# Altium schematic symbol library SCH - DRIVER - LED - TI TLC59711_PWP_20.SchLib: 1 symbol
Pins are listed as number, name and electrical type; pins without a type are passive.

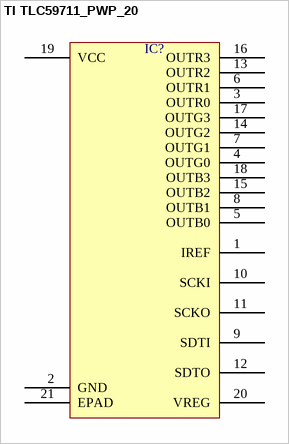
[diagram p0: symbol TI TLC59711_PWP_20]

## TI TLC59711_PWP_20
designator IC?  (value not drawn)
pins: 1 IREF, 2 GND, 3 OUTR0, 4 OUTG0, 5 OUTB0, 6 OUTR1, 7 OUTG1, 8 OUTB1, 9 SDTI, 10 SCKI, 11 SCKO, 12 SDTO, 13 OUTR2, 14 OUTG2, 15 OUTB2, 16 OUTR3, 17 OUTG3, 18 OUTB3, 19 VCC, 20 VREG, 21 EPAD